# EAGLE library part 612010235121 (library Wuerth_Elektronik_eiCan_05_Box_Header_IDC_Connectors_1_2)
WR-BHD 2.54mm Male Box Header High Temperature, 10 Pins
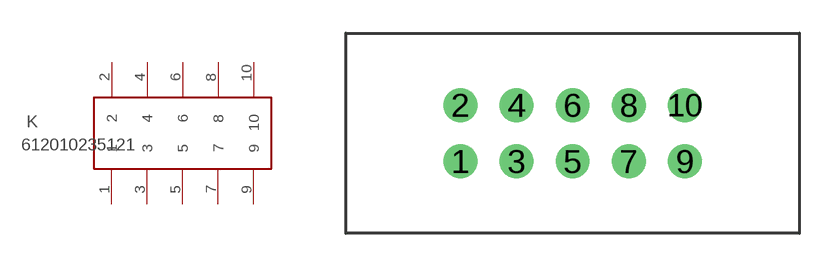
[diagram p103: symbol with the pads of 612010235121; footprint 612010235121]

Designator prefix K

## 612010235121  [612010235121]
1  1  pas
2  2  pas
3  3  pas
4  4  pas
5  5  pas
6  6  pas
7  7  pas
8  8  pas
9  9  pas
10  10  pas

## Footprint 612010235121 (pad centres in mm)
WR-BHD 2.54mm Male Box Header High Temperature, 10 Pins
drill 1.02: 1 -2.54,-1.27; 2 -2.54,1.27; 3 0,-1.27; 4 0,1.27; 5 2.54,-1.27; 6 2.54,1.27; 7 5.08,-1.27; 8 5.08,1.27; 9 7.62,-1.27; 10 7.62,1.27